# Altium schematic symbol library ProPrj_HTX-easyedapro.SchLib: 117 symbols (part 2 of 2)
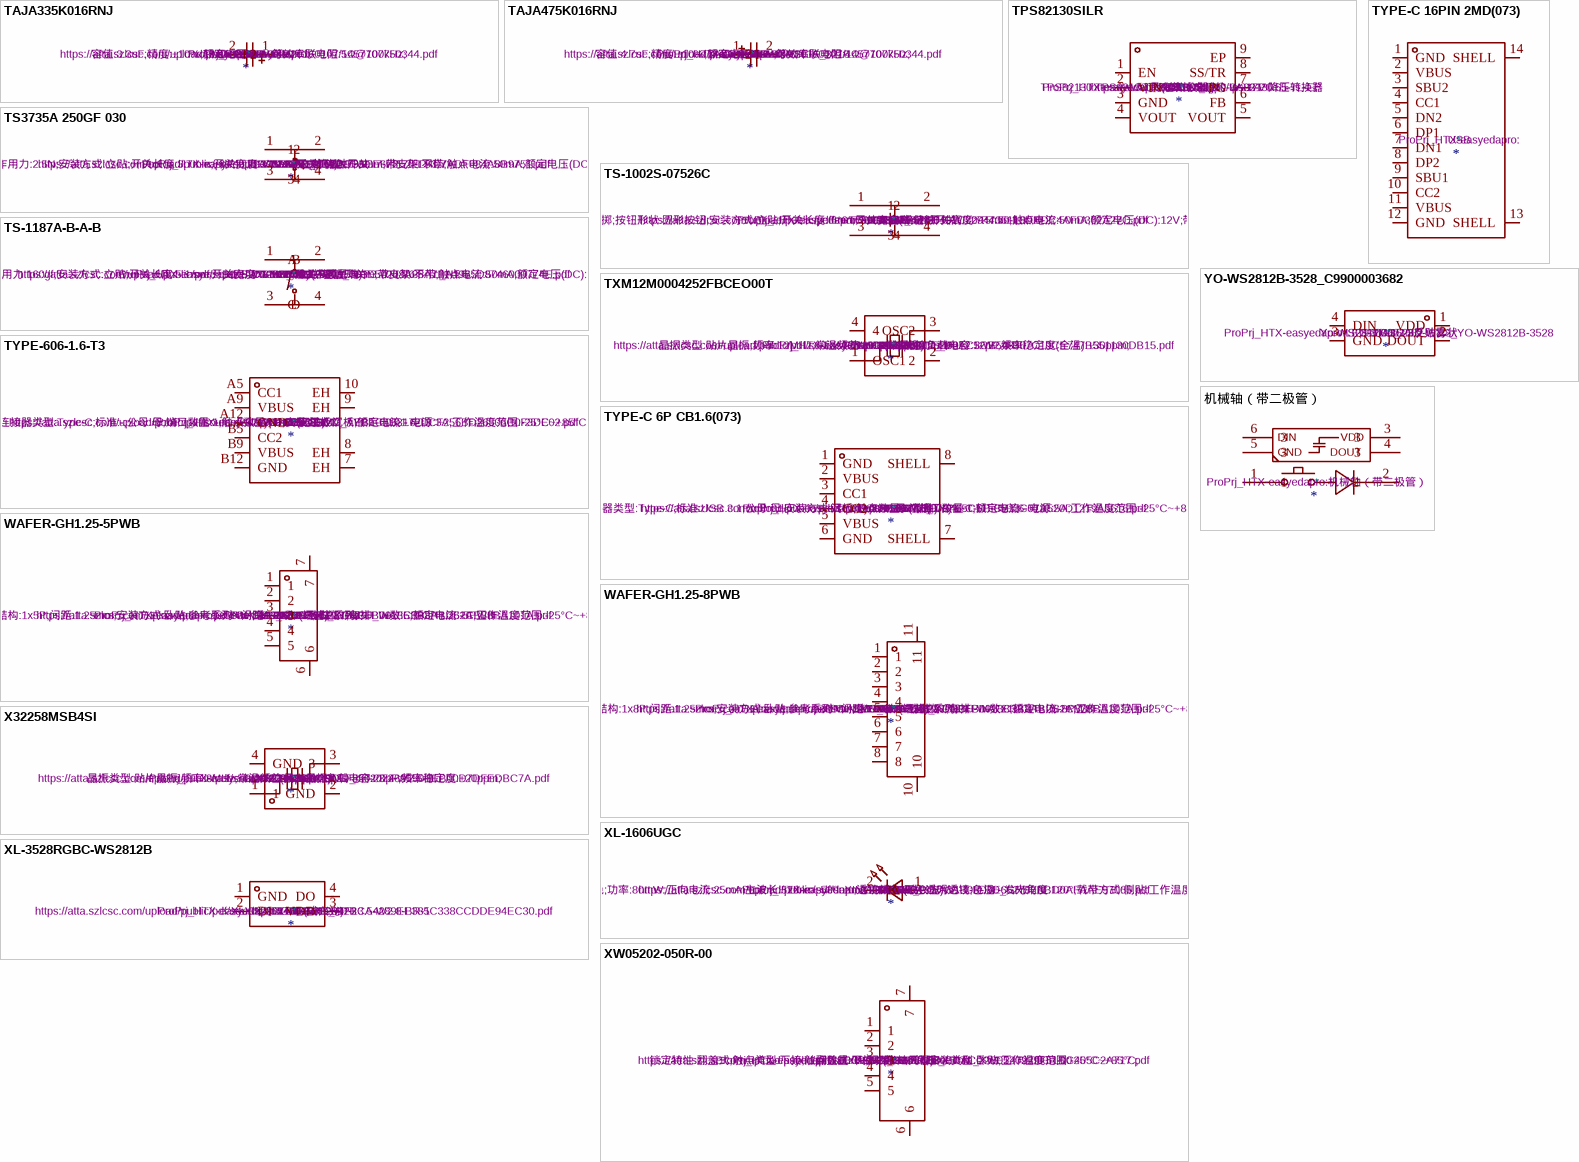
[diagram p6: symbols TAJA335K016RNJ to 机械轴（带二极管）]

## TS3735A 250GF 030
designator *  Footprint: ProPrj_HTX-easyedapro:SW-SMD_4P-L3.7-W3.7-P2.70-LS3.7  Supplier: LCSC  Reference: SW  Manufacturer Part: TS3735A 250gf 030  Manufacturer: SHOU HAN(首韩)  Supplier Part: C2906282  LCSC Part Name: 3.7*3.7*0.35mm 立贴 轻触开关
电路结构:单刀单掷;按钮形状:圆形按钮;作用力:2.5N;安装方式:立贴;开关长度:3.7mm;开关宽度:3.7mm;开关高度:0.35mm;带支架:不带;触点电流:50mA;额定电压(DC):12V;绝缘电阻:100MΩ;机械寿命:3万次;; Datasheet: https://atta.szlcsc.com/upload/public/pdf/source/20211019/126A9D1EE678E2ED4D7ADF984A8B9751.pdf; Description_: 电路结构:单刀单掷;按钮形状:圆形按钮;作用力:2.5N;安装方式:立贴;开关长度:3.7mm;开关宽度:3.7mm;开关高度:0.35mm;带支架:不带;触点电流:50mA;额定电压(DC):12V;绝缘电阻:100MΩ;机械寿命:3万次;
pins: 1, 2, 3, 4

## TS-1002S-07526C
designator *  Footprint: ProPrj_HTX-easyedapro:SW-SMD_4P-L6.0-W6.0-P4.50-LS9.0-2  Supplier: LCSC  Reference: SW  Manufacturer Part: TS-1002S-07526C  Manufacturer: XUNPU(讯普)  Supplier Part: C455115  LCSC Part Name: 6*6*7.5mm 立贴 轻触开关
电路结构:单刀单掷;按钮形状:圆形按钮;安装方式:立贴;开关长度:6mm;开关宽度:6mm;开关高度:7.5mm;触点电流:50mA;额定电压(DC):12V;带灯:-;机械寿命:-;; Datasheet: https://atta.szlcsc.com/upload/public/pdf/source/20230817/980491C7294735110DBDC4AFD302A27C.pdf; Description_: 电路结构:单刀单掷;按钮形状:圆形按钮;安装方式:立贴;开关长度:6mm;开关宽度:6mm;开关高度:7.5mm;触点电流:50mA;额定电压(DC):12V;带灯:-;机械寿命:-;
pins: 1, 2, 3, 4

## TS-1187A-B-A-B
designator *  Footprint: ProPrj_HTX-easyedapro:SW-SMD_4P-L5.1-W5.1-P3.70-LS6.5-TL_H1.5  Supplier: LCSC  Reference: SW  Manufacturer Part: TS-1187A-B-A-B  Manufacturer: XKB Connectivity(中国星坤)  Supplier Part: C318884  LCSC Part Name: 5.1*5.1*1.5mm 立贴 轻触开关
电路结构:单刀单掷;按钮形状:圆形按钮;作用力:160gf;安装方式:立贴;开关长度:5.1mm;开关宽度:5.1mm;开关高度:1.5mm;带支架:不带;触点电流:50mA;额定电压(DC):12V;绝缘电阻:-;带灯:无;机械寿命:10万次;; Datasheet: https://atta.szlcsc.com/upload/public/pdf/source/20200227/C318890_053E50208A88A7BA1965D8746000774E.pdf; Description_: 电路结构:单刀单掷;按钮形状:圆形按钮;作用力:160gf;安装方式:立贴;开关长度:5.1mm;开关宽度:5.1mm;开关高度:1.5mm;带支架:不带;触点电流:50mA;额定电压(DC):12V;绝缘电阻:-;带灯:无;机械寿命:10万次;
pins: 1 A, 2 B, 3 C, 4 D

## TXM12M0004252FBCEO00T
designator *  value 12MHz  Footprint: ProPrj_HTX-easyedapro:OSC-SMD_4P-L2.5-W2.0-BL  Supplier: LCSC  Reference: X  Manufacturer Part: TXM12M0004252FBCEO00T  Manufacturer: YJX(雅晶鑫)  Supplier Part: C284155  LCSC Part Name: 12MHz ±10ppm 12pF
晶振类型:贴片晶振;频率:12MHz;常温频差:±10ppm;外接负载电容:12pF;频率稳定度(全温):±30ppm;; Datasheet: https://atta.szlcsc.com/upload/public/pdf/source/20180910/C284155_B9AC3CB548367C19CE747B551130DB15.pdf; Description_: 晶振类型:贴片晶振;频率:12MHz;常温频差:±10ppm;外接负载电容:12pF;频率稳定度(全温):±30ppm;
pins: 1 OSC1, 2, 3 OSC2, 4

## TYPE-606-1.6-T3
designator *  Footprint: ProPrj_HTX-easyedapro:USB-C-SMD_TYPE-606-1.6-T3  Supplier: LCSC  Reference: USB  Manufacturer Part: TYPE-606-1.6-T3  Manufacturer: Yuandi(元迪)  Supplier Part: C2689842  LCSC Part Name: Type-C 母 沉板
连接器类型:Type-C;标准:-;公母:母;端口数量:1;触点数量:6P;安装方式:沉板;额定电流 - 电源:3A;工作温度范围:-25°C~+85°C;; Datasheet: https://atta.szlcsc.com/upload/public/pdf/source/20210201/C2689842_AEB1C5B3172DCF256BD26506C0F3DE02.pdf; Description_: 连接器类型:Type-C;标准:-;公母:母;端口数量:1;触点数量:6P;安装方式:沉板;额定电流 - 电源:3A;工作温度范围:-25°C~+85°C;
pins: 7 EH, 8 EH, 9 EH, 10 EH, A5 CC1, A9 VBUS, A12 GND, B5 CC2, B9 VBUS, B12 GND

## TYPE-C 6P CB1.6(073)
designator *  Footprint: ProPrj_HTX-easyedapro:USB-C-SMD_TYPE-C-6P-CB1.6-073  Supplier: LCSC  Reference: USB  Manufacturer Part: TYPE-C 6P CB1.6(073)  Manufacturer: SHOU HAN(首韩)  Supplier Part: C2858274  LCSC Part Name: Type-C 母 沉板
连接器类型:Type-C;标准:USB 3.1;公母:母;安装方式:沉板;触点数量:6P;端口数量:1;额定电流 - 电源:5A;工作温度范围:-25°C~+85°C;; Datasheet: https://atta.szlcsc.com/upload/public/pdf/source/20220408/7E0E465C11F85B3C51A520D1219A5616.pdf; Description_: 连接器类型:Type-C;标准:USB 3.1;公母:母;安装方式:沉板;触点数量:6P;端口数量:1;额定电流 - 电源:5A;工作温度范围:-25°C~+85°C;
pins: 1 GND, 2 VBUS, 3 CC1, 4 CC2, 5 VBUS, 6 GND, 7 SHELL, 8 SHELL

## TYPE-C 16PIN 2MD(073)
designator *  Footprint: ProPrj_HTX-easyedapro:  Reference: USB
pins: 1 GND, 2 VBUS, 3 SBU2, 4 CC1, 5 DN2, 6 DP1, 7 DN1, 8 DP2, 9 SBU1, 10 CC2, 11 VBUS, 12 GND, 13 SHELL, 14 SHELL

## WAFER-GH1.25-5PWB
designator *  Footprint: ProPrj_HTX-easyedapro:CONN-SMD_5P-P1.25_XUNPU_WAFER-GH1.25-5PWB  Supplier: LCSC  Reference: U  Manufacturer Part: WAFER-GH1.25-5PWB  Manufacturer: XUNPU(讯普)  Supplier Part: C3029380  LCSC Part Name: 1x5P 间距:1.25mm 卧贴 系列:GH
插针结构:1x5P;间距:1.25mm;安装方式:卧贴;参考系列:GH;总PIN数:5P;排数:1;每排PIN数:5;额定电流:1A;工作温度范围:-25°C~+85°C;; Datasheet: https://atta.szlcsc.com/upload/public/pdf/source/20220527/CB8773BFB0913C3B8ABD62CB38BA101A.pdf; Description_: 插针结构:1x5P;间距:1.25mm;安装方式:卧贴;参考系列:GH;总PIN数:5P;排数:1;每排PIN数:5;额定电流:1A;工作温度范围:-25°C~+85°C;
pins: 1, 2, 3, 4, 5, 6, 7

## WAFER-GH1.25-8PWB
designator *  Footprint: ProPrj_HTX-easyedapro:CONN-SMD_8P-P1.25_XUNPU-WAFER-GH1.25-8PWB  Supplier: LCSC  Reference: U  Manufacturer Part: WAFER-GH1.25-8PWB  Manufacturer: XUNPU(讯普)  Supplier Part: C3029383  LCSC Part Name: 1x8P 间距:1.25mm 卧贴 系列:GH
插针结构:1x8P;间距:1.25mm;安装方式:卧贴;参考系列:GH;总PIN数:8P;排数:1;每排PIN数:8;额定电流:1A;工作温度范围:-25°C~+85°C;; Datasheet: https://atta.szlcsc.com/upload/public/pdf/source/20220527/CB8773BFB0913C3B8ABD62CB38BA101A.pdf; Description_: 插针结构:1x8P;间距:1.25mm;安装方式:卧贴;参考系列:GH;总PIN数:8P;排数:1;每排PIN数:8;额定电流:1A;工作温度范围:-25°C~+85°C;
pins: 1, 2, 3, 4, 5, 6, 7, 8, 10, 11

## X32258MSB4SI
designator *  value 8MHz  Footprint: ProPrj_HTX-easyedapro:CRYSTAL-SMD_4P-L3.2-W2.5-BL  Supplier: LCSC  Reference: X  Manufacturer Part: X32258MSB4SI  Manufacturer: YXC(扬兴晶振)  Supplier Part: C2682774  LCSC Part Name: 8MHz ±10ppm 20pF
晶振类型:贴片晶振;频率:8MHz;常温频差:±10ppm;负载电容:20pF;频率稳定度:±20ppm;; Datasheet: https://atta.szlcsc.com/upload/public/pdf/source/20240329/19D5F850207469550BEB00D7DFEDBC7A.pdf; Description_: 晶振类型:贴片晶振;频率:8MHz;常温频差:±10ppm;负载电容:20pF;频率稳定度:±20ppm;
pins: 1, 2 GND, 3, 4 GND

## XL-1606UGC
designator *  Footprint: ProPrj_HTX-easyedapro:LED-SMD_L1.7-W1.1-R-RD_GREEN  Supplier: LCSC  Reference: LED  Manufacturer Part: XL-1606UGC  Manufacturer: XINGLIGHT(成兴光)  Supplier Part: C965863
发光颜色:翠绿色;功率:80mW;正向电流:25mA;主波长:520nm~530nm;透镜颜色:无色透明透镜;色温:-;发光角度:120°;载带方式:侧贴;工作温度:-30°C~+85°C;; Datasheet: https://atta.szlcsc.com/upload/public/pdf/source/20221102/94FA3AB05D9E652787BBD0AFAAE97065.pdf; Description_: 发光颜色:翠绿色;功率:80mW;正向电流:25mA;主波长:520nm~530nm;透镜颜色:无色透明透镜;色温:-;发光角度:120°;载带方式:侧贴;工作温度:-30°C~+85°C;; LCSC Part Name: XL-1606UGC
pins: 1 A, 2 K

## XL-3528RGBC-WS2812B
designator *  Footprint: ProPrj_HTX-easyedapro:LED-SMD_4P-L3.5-W2.8-BR-1  Supplier: LCSC  Reference: U  Manufacturer Part: XL-3528RGBC-WS2812B  Manufacturer: XINGLIGHT(成兴光)  Supplier Part: C5440693
Datasheet: https://atta.szlcsc.com/upload/public/pdf/source/20240613/4CD4F2CA4289EE385C338CCDDE94EC30.pdf; LCSC Part Name: XL-3528RGBC-WS2812B
pins: 1 GND, 2 DI, 3 VDD, 4 DO

## XW05202-050R-00
designator *  Footprint: ProPrj_HTX-easyedapro:FPC-SMD_5P-P0.50_HCTL_XW05202-050R-00  Supplier: LCSC  Reference: FPC  Manufacturer Part: XW05202-050R-00  Manufacturer: HCTL(华灿天禄)  Supplier Part: C2906109  LCSC Part Name: 翻盖式 下接 P数:5P 间距:0.5mm
锁定特性:翻盖式;触点类型:下接;触点数量:5P;间距:0.5mm;安装类型:卧贴;工作温度范围:-25°C~+85°C;; Datasheet: https://atta.szlcsc.com/upload/public/pdf/source/20231106/C384EBACC26E247929F51DC405C2A717.pdf; Description_: 锁定特性:翻盖式;触点类型:下接;触点数量:5P;间距:0.5mm;安装类型:卧贴;工作温度范围:-25°C~+85°C;
pins: 1, 2, 3, 4, 5, 6, 7

## YO-WS2812B-3528_C9900003682
designator *  Footprint: ProPrj_HTX-easyedapro:LED-SMD_L3.2-W2.8_YO-WS2812B-3528  Supplier: LCSC  Reference: U  Manufacturer Part: Yo-WS2812B-3528反贴雾状  Supplier Part: C9900003682
LCSC Part Name: Yo-WS2812B-3528反贴雾状
pins: 1 VDD, 2 DOUT, 3 GND, 4 DIN

## 机械轴（带二极管）
designator *  Footprint: ProPrj_HTX-easyedapro:机械轴（带二极管）
pins: 1, 2, 3, 4 3, 5 3, 6 3
text: DIN; VDD; GND; DOUT